# EAGLE library part IMU_LSM (library custom)
ST_LSM9DS1_IMU_LGA Technical specifications: Analog Supply Voltage: 1.9~3.6 V. 3 acceleration channels, 3 angular rate channels, 3 magnetic field channels. 16-bit data output. Operating Temperature: -40 °C to 85 °C.
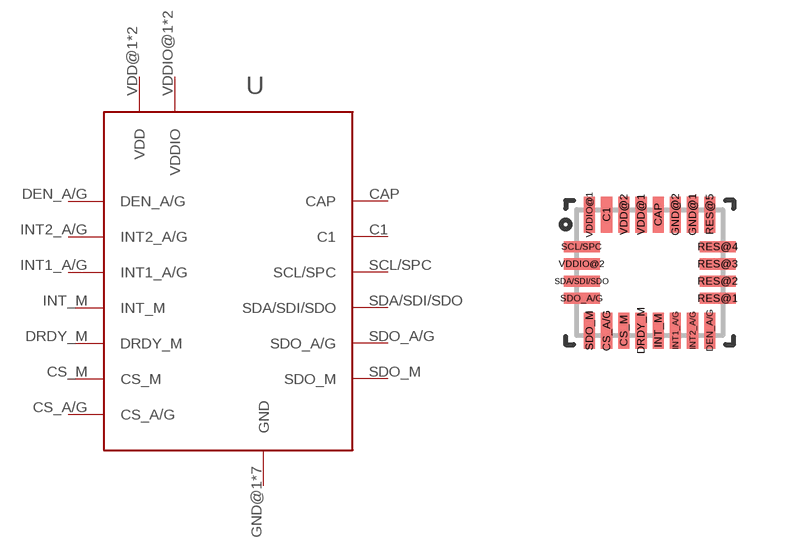
[diagram p0: symbol with the pads of LSM9DS1_IMU; footprint LSM9DS1_IMU]

Designator prefix U

## IMU_LSM-ST-LSM9DS1-IMU-LGA (CREATOR: Yangsheng Hu; DIST: Digikey; DISTPN: 497-14946-1-ND)  [LSM9DS1_IMU]
C1  C1
CAP  CAP
CS_A/G  CS_A/G
CS_M  CS_M
DEN_A/G  DEN_A/G
DRDY_M  DRDY_M
GND@1  GND
GND@2  GND
INT1_A/G  INT1_A/G
INT2_A/G  INT2_A/G
INT_M  INT_M
RES@1  GND
RES@2  GND
RES@3  GND
RES@4  GND
RES@5  GND
SCL/SPC  SCL/SPC
SDA/SDI/SDO  SDA/SDI/SDO
SDO_A/G  SDO_A/G
SDO_M  SDO_M
VDD@1  VDD
VDD@2  VDD
VDDIO@1  VDDIO
VDDIO@2  VDDIO

## Footprint LSM9DS1_IMU (pad centres in mm)
smd 0.28 x 0.9: C1 -1.075,1.45; CAP 0.215,1.45; CS_A/G -1.075,-1.45; CS_M -0.645,-1.45; DEN_A/G 1.505,-1.45; DRDY_M -0.215,-1.45; GND@1 1.075,1.45; GND@2 0.645,1.45; INT1_A/G 0.645,-1.45; INT2_A/G 1.075,-1.45; INT_M 0.215,-1.45; RES@5 1.505,1.45; SDO_M -1.505,-1.45; VDD@1 -0.215,1.45; VDD@2 -0.645,1.45; VDDIO@1 -1.505,1.45
smd 0.9 x 0.28: RES@1 1.7,-0.645; RES@2 1.7,-0.215; RES@3 1.7,0.215; RES@4 1.7,0.645; SCL/SPC -1.7,0.645; SDA/SDI/SDO -1.7,-0.215; SDO_A/G -1.7,-0.645; VDDIO@2 -1.7,0.215